# EAGLE library part LTC2453 (library STM_Library)
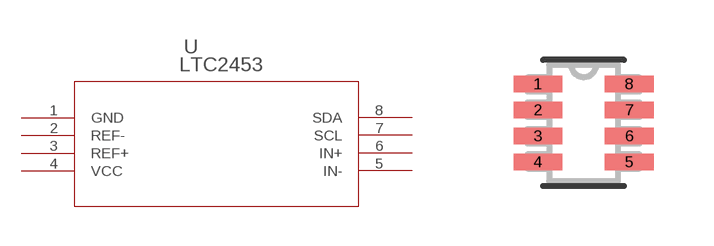
[diagram p5: symbol with the pads of TSOT-23_TS8; footprint TSOT-23_TS8]

Designator prefix U

## LTC2453 (AVAILABILITY: Unavailable; DESCRIPTION: LTC2453 - Ultra-Tiny, Differential, 16-Bit Delta Sigma ADC With I2C Interface; MF: Linear Technology/Analog; MP: LTC2453ITS8#TRPBF; PACKAGE: SOT-23-8 Linear Technology; PRICE: None)  [TSOT-23_TS8]
1  GND  pwr
2  REF-  in
3  REF+  in
4  VCC  pwr
5  IN-  in
6  IN+  in
7  SCL  in
8  SDA

## Footprint TSOT-23_TS8 (pad centres in mm)
smd 1.219 x 0.406: 1 -1.143,0.975; 2 -1.143,0.325; 3 -1.143,-0.325; 4 -1.143,-0.975; 5 1.143,-0.975; 6 1.143,-0.325; 7 1.143,0.325; 8 1.143,0.975